# Altium schematic symbol library Capacitors.SchLib: 28 symbols
Pins are listed as number, name and electrical type; pins without a type are passive.

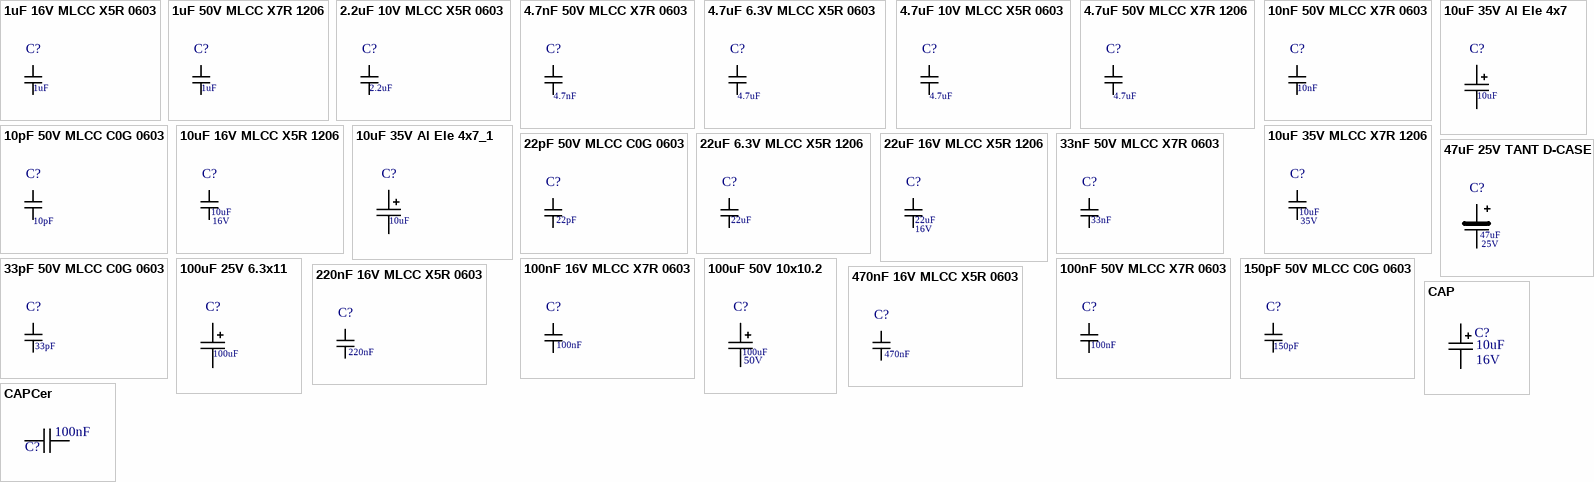
[diagram p0: symbols 1uF 16V MLCC X5R 0603 to CAPCer]

## 1uF 16V MLCC X5R 0603
designator C?  value 1uF  (hidden comment: 1uF 16V MLCC X5R 0603)
Manufacturer Part Num: MC0603X105K160CT; ComponentLink1Description: Datasheet; Lötbarkeit RoHS: YES; Material RoHS: YES; Ordercode: 1uF 16V MLCC X5R 0603
footprint 0603CAP (Chip Capacitor, 2-Leads, Body 1,7x0,9mm, IPC High Density)
pins: 1, 2

## 1uF 50V MLCC X7R 1206
designator C?  value 1uF  (hidden comment: 1uF 50V MLCC X7R 1206)
MLCC; Manufacturer Part Num: 1206B105K500CT; ComponentLink1Description: Datasheet; Lötbarkeit RoHS: YES; Material RoHS: YES; Ordercode: 1uF 50V MLCC X7R 1206; Part Specification: 1uF 50V MLCC X7R 1206
footprint 1206CAP (Chip Capacitor, 2-Leads, Body 3,3x1,7mm, IPC High Density)
pins: 1, 2

## 2.2uF 10V MLCC X5R 0603
designator C?  value 2.2uF  (hidden comment: 2.2uF 10V MLCC X5R 0603)
Manufacturer Part Num: 0603X225K100CT; ComponentLink1Description: Datasheet; Lötbarkeit RoHS: YES; Material RoHS: YES; Ordercode: 2.2uF 10V MLCC X5R 0603
footprint 0603CAP (Chip Capacitor, 2-Leads, Body 1,7x0,9mm, IPC High Density)
pins: 1, 2

## 4.7nF 50V MLCC X7R 0603
designator C?  value 4.7nF  (hidden comment: 4.7nF 50V MLCC X7R 0603)
Manufacturer Part Num: MC0603B472K500CT; ComponentLink1Description: Datasheet; Lötbarkeit RoHS: YES; Material RoHS: YES; Ordercode: 4.7nF 50V MLCC X7R 0603
footprint 0603CAP (Chip Capacitor, 2-Leads, Body 1,7x0,9mm, IPC High Density)
pins: 1, 2

## 4.7uF 6.3V MLCC X5R 0603
designator C?  value 4.7uF  (hidden comment: 4.7uF 6.3V MLCC X5R 0603)
Manufacturer Part Num: 0603X475K6R3CT; ComponentLink1Description: Datasheet; Lötbarkeit RoHS: YES; Material RoHS: YES; Ordercode: 4.7uF 6.3V MLCC X5R 0603
footprint 0603CAP (Chip Capacitor, 2-Leads, Body 1,7x0,9mm, IPC High Density)
pins: 1, 2

## 4.7uF 10V MLCC X5R 0603
designator C?  value 4.7uF  (hidden comment: 4.7uF 10V MLCC X5R 0603)
Manufacturer Part Num: MC0603X475K100CT; ComponentLink1Description: Datasheet; Lötbarkeit RoHS: YES; Material RoHS: YES; Ordercode: 4.7uF 10V MLCC X5R 0603
footprint 0603CAP (Chip Capacitor, 2-Leads, Body 1,7x0,9mm, IPC High Density)
pins: 1, 2

## 4.7uF 50V MLCC X7R 1206
designator C?  value 4.7uF  (hidden comment: 4.7uF 50V MLCC X7R 1206)
MLCC; Manufacturer Part Num: 1206B475K500CT; ComponentLink1Description: Datasheet; Lötbarkeit RoHS: YES; Material RoHS: YES; Ordercode: 4.7uF 50V MLCC X7R 1206; Part Specification: 4.7uF 50V MLCC X7R 1206
footprint 1206CAP (Chip Capacitor, 2-Leads, Body 3,3x1,7mm, IPC High Density)
pins: 1, 2

## 10nF 50V MLCC X7R 0603
designator C?  value 10nF  (hidden comment: 10nF 50V MLCC X7R 0603)
Manufacturer Part Num: MC0603B103K500CT; ComponentLink1Description: Datasheet; Lötbarkeit RoHS: YES; Material RoHS: YES; Ordercode: 10nF 50V MLCC X7R 0603
footprint 0603CAP (Chip Capacitor, 2-Leads, Body 1,7x0,9mm, IPC High Density)
pins: 1, 2

## 10pF 50V MLCC C0G 0603
designator C?  value 10pF  (hidden comment: 10pF 50V MLCC C0G 0603)
Manufacturer Part Num: MC0603N100J500CT; ComponentLink1Description: Datasheet; Lötbarkeit RoHS: YES; Material RoHS: YES; Ordercode: 10pF 50V MLCC C0G 0603
footprint 0603CAP (Chip Capacitor, 2-Leads, Body 1,7x0,9mm, IPC High Density)
pins: 1, 2

## 10uF 16V MLCC X5R 1206
designator C?  value 10uF  Voltage: 16V  (hidden comment: 10uF 16V MLCC X5R 1206)
Manufacturer Part Num: 1206X106K160CT; ComponentLink1Description: Datasheet; Lötbarkeit RoHS: YES; Material RoHS: YES; Ordercode: 10uF 16V MLCC X5R 1206
footprint 1206CAP (Chip Capacitor, 2-Leads, Body 3,3x1,7mm, IPC High Density)
pins: 1, 2

## 10uF 35V Al Ele 4x7
designator C?, comment value 10uF  (hidden comment: 10uF 35V 4x7)
Manufacturer Part Num: MCMR35V106M4X7; Ordercode: 10uF 35V Al Ele 4x7; Voltage: 35V; ComponentLink1Description: Datasheet; Lötbarkeit RoHS: YES; Material RoHS: YES
footprint CAP4mm
pins: 1, 2

## 10uF 35V Al Ele 4x7_1
designator C?, comment value 10uF  (hidden comment: 47uF 35V TANT D-CASE)
10uF 35V 4x7; Manufacturer Part Num: MCMR35V106M4X7; Ordercode: 10uF 35V Al Ele 4x7_1; Voltage: 35V; ComponentLink1Description: Datasheet; Lötbarkeit RoHS: YES; Material RoHS: YES
footprint CAP4mm
pins: 1, 2

## 10uF 35V MLCC X7R 1206
designator C?  value 10uF  Voltage: 35V  (hidden comment: 10uF 35V MLCC X7R 1206)
MLCC; Manufacturer Part Num: 10uF 35V MLCC X7R 1206; ComponentLink1Description: Datasheet; Lötbarkeit RoHS: YES; Material RoHS: YES; Ordercode: 10uF 35V MLCC X7R 1206; Part Specification: 10uF 35V MLCC X7R 1206
footprint 1206CAP (Chip Capacitor, 2-Leads, Body 3,3x1,7mm, IPC High Density)
pins: 1, 2

## 22pF 50V MLCC C0G 0603
designator C?  value 22pF  (hidden comment: 22pF 50V MLCC C0G 0603)
Manufacturer Part Num: MC0603N220J500CT; ComponentLink1Description: Datasheet; Lötbarkeit RoHS: YES; Material RoHS: YES; Ordercode: 22pF 50V MLCC C0G 0603
footprint 0603CAP (Chip Capacitor, 2-Leads, Body 1,7x0,9mm, IPC High Density)
pins: 1, 2

## 22uF 6.3V MLCC X5R 1206
designator C?  value 22uF  (hidden comment: 22uF 6.3V MLCC X5R 1206)
Manufacturer Part Num: 1206X226K6R3CT; ComponentLink1Description: Datasheet; Lötbarkeit RoHS: YES; Material RoHS: YES; Ordercode: 22uF 6.3V MLCC X5R 1206
footprint 1206CAP (Chip Capacitor, 2-Leads, Body 3,3x1,7mm, IPC High Density)
pins: 1, 2

## 22uF 16V MLCC X5R 1206
designator C?  value 22uF  Voltage: 16V  (hidden comment: 22uF 16V MLCC X5R 1206)
Manufacturer Part Num: 1206X226K160CT; ComponentLink1Description: Datasheet; Lötbarkeit RoHS: YES; Material RoHS: YES; Ordercode: 22uF 16V MLCC X5R 1206
footprint 1206CAP (Chip Capacitor, 2-Leads, Body 3,3x1,7mm, IPC High Density)
pins: 1, 2

## 33nF 50V MLCC X7R 0603
designator C?  value 33nF  (hidden comment: 33nF 50V MLCC X7R 0603)
Part Specification: 33nF/50V/0603; ComponentLink1Description: Datasheet; Lötbarkeit RoHS: YES; Material RoHS: YES; Ordercode: 33nF 50V MLCC X7R 0603
footprint 0603CAP (Chip Capacitor, 2-Leads, Body 1,7x0,9mm, IPC High Density)
pins: 1, 2

## 33pF 50V MLCC C0G 0603
designator C?  value 33pF  (hidden comment: 33pF 50V MLCC C0G 0603)
Manufacturer Part Num: MC0603N330J500CT; ComponentLink1Description: Datasheet; Lötbarkeit RoHS: YES; Material RoHS: YES; Ordercode: 33pF 50V MLCC C0G 0603
footprint 0603CAP (Chip Capacitor, 2-Leads, Body 1,7x0,9mm, IPC High Density)
pins: 1, 2

## 47uF 25V TANT D-CASE
designator C?  value 47uF  Voltage: 25V  (hidden comment: 47uF 25V TANT D-CASE)
Manufacturer Part Num: 293D476X9025D2TE3; ComponentLink1Description: Datasheet; Lötbarkeit RoHS: YES; Material RoHS: YES; Ordercode: 47uF 25V TANT D-CASE
footprint D_TANT (Capacitor, SM Tantalum; Body 7.3 x 4.3 mm (LxW typ))
pins: 1, 2

## 100nF 16V MLCC X7R 0603
designator C?  value 100nF  (hidden comment: 100nF 16V MLCC X7R 0603)
Manufacturer Part Num: MC0603B104K500CT; ComponentLink1Description: Datasheet; Lötbarkeit RoHS: YES; Material RoHS: YES; Ordercode: 100nF 16V MLCC X7R 0603
footprint 0603CAP (Chip Capacitor, 2-Leads, Body 1,7x0,9mm, IPC High Density)
pins: 1, 2

## 100nF 50V MLCC X7R 0603
designator C?  value 100nF  (hidden comment: 100nF 50V MLCC X7R 0603)
Manufacturer Part Num: MC0603B104K500CT; ComponentLink1Description: Datasheet; Lötbarkeit RoHS: YES; Material RoHS: YES; Ordercode: 100nF 50V MLCC X7R 0603
footprint 0603CAP (Chip Capacitor, 2-Leads, Body 1,7x0,9mm, IPC High Density)
pins: 1, 2

## 100uF 25V 6.3x11
designator C?  value 100uF  (hidden comment: 100uF 25V 6.3x11)
Manufacturer Part Num: MCGPR25V107M6.3X11; Voltage: 25V; ComponentLink1Description: Datasheet; Lötbarkeit RoHS: YES; Material RoHS: YES; Ordercode: 100uF 25V 6.3x11
footprint CAP6.3mm (Capacitor, Electrolytic, Radial; Body 6.3x12mm (Dia.xH typ); Pin Spacing 2.5mm)
pins: 1, 2

## 100uF 50V 10x10.2
designator C?, comment value 100uF  Voltage: 50V  (hidden comment: 100uF/50V/28mR)
Solid Polimer Aluminium Capacitor; Manufacturer Part Num: EEHZA1H101P; Manufacturer: PANASONIC; ComponentLink1Description: Datasheet; ComponentLink1URL: http://www.farnell.com/datasheets/1929907.pdf; Lötbarkeit RoHS: YES; Material RoHS: YES; Ordercode: EEHZA1H101P; Part Specification: 100uF/50V/28mR
footprint CAP10mm SMD
pins: 1, 2

## 150pF 50V MLCC C0G 0603
designator C?  value 150pF  (hidden comment: 150pF 50V MLCC C0G 0603)
Manufacturer Part Num: CGA3E2C0G1H151J080AA; ComponentLink1Description: Datasheet; Lötbarkeit RoHS: YES; Material RoHS: YES; Ordercode: 150pF 50V MLCC C0G 0603
footprint 0603CAP (Chip Capacitor, 2-Leads, Body 1,7x0,9mm, IPC High Density)
pins: 1, 2

## 220nF 16V MLCC X5R 0603
designator C?  value 220nF  (hidden comment: 220nF 16V MLCC X5R 0603)
Manufacturer Part Num: MC0603X224K160CT; ComponentLink1Description: Datasheet; Lötbarkeit RoHS: YES; Material RoHS: YES; Ordercode: 220nF 16V MLCC X5R 0603
footprint 0603CAP (Chip Capacitor, 2-Leads, Body 1,7x0,9mm, IPC High Density)
pins: 1, 2

## 470nF 16V MLCC X5R 0603
designator C?  value 470nF  (hidden comment: 470nF 16V MLCC X5R 0603)
MLCC; Manufacturer Part Num: 470nF 16V MLCC X5R 0603; ComponentLink1Description: Datasheet; Lötbarkeit RoHS: YES; Material RoHS: YES; Ordercode: 470nF 16V MLCC X5R 0603
footprint 0603CAP (Chip Capacitor, 2-Leads, Body 1,7x0,9mm, IPC High Density)
pins: 1, 2

## CAP
designator C?  value 10uF  Voltage: 16V
footprint A_tant (Capacitor, SM Tantalum; Body 3.2 x 1.6 mm (LxW typ))
footprint B_TANT (Capacitor, SM Tantalum; Body 3.5 x 2.8 mm (LxW typ))
footprint D_TANT (Capacitor, SM Tantalum; Body 7.3 x 4.3 mm (LxW typ))
footprint CAP6.3mm (Capacitor, Electrolytic, Radial; Body 6.3x12mm (Dia.xH typ); Pin Spacing 2.5mm)
footprint CAP8mm (Capacitor, Electrolytic, Radial; Body 8x12mm (Dia.xH typ); Pin Spacing 3.5mm)
footprint CAP10mm (Capacitor, Electrolytic, Radial; Body 10x13mm (Dia.xH typ); Pin Spacing 5mm)
footprint C_TANT (Chip Capacitor, 2-Leads, Body 8,90x4,40mm, IPC Medium Density)
footprint CAP4mm
pins: 1, 2
1 alternate drawing of the same symbol

## CAPCer
designator C?, comment value 100nF  (hidden comment: Capacitor)
Ceramic Chip Capacitor - Standard; Voltage: 16V
footprint 0402CAP (Chip Capacitor, 2-Leads, Body 1,1x0,5mm, IPC High Density)
footprint 0603CAP (Chip Capacitor, 2-Leads, Body 1,7x0,9mm, IPC High Density)
footprint 0805CAP (Chip Capacitor, 2-Leads, Body 2,1x1,4mm, IPC High Density)
footprint 1206CAP (Chip Capacitor, 2-Leads, Body 3,3x1,7mm, IPC High Density)
footprint CAPuniversal (Chip Capacitor, 2-Leads, All sizes)
footprint Ceramic TH
footprint Film TH
pins: 1, 2